# Altium integrated library Microchip PIC16 Part 2.IntLib: 1569 symbols (part 52 of 56)
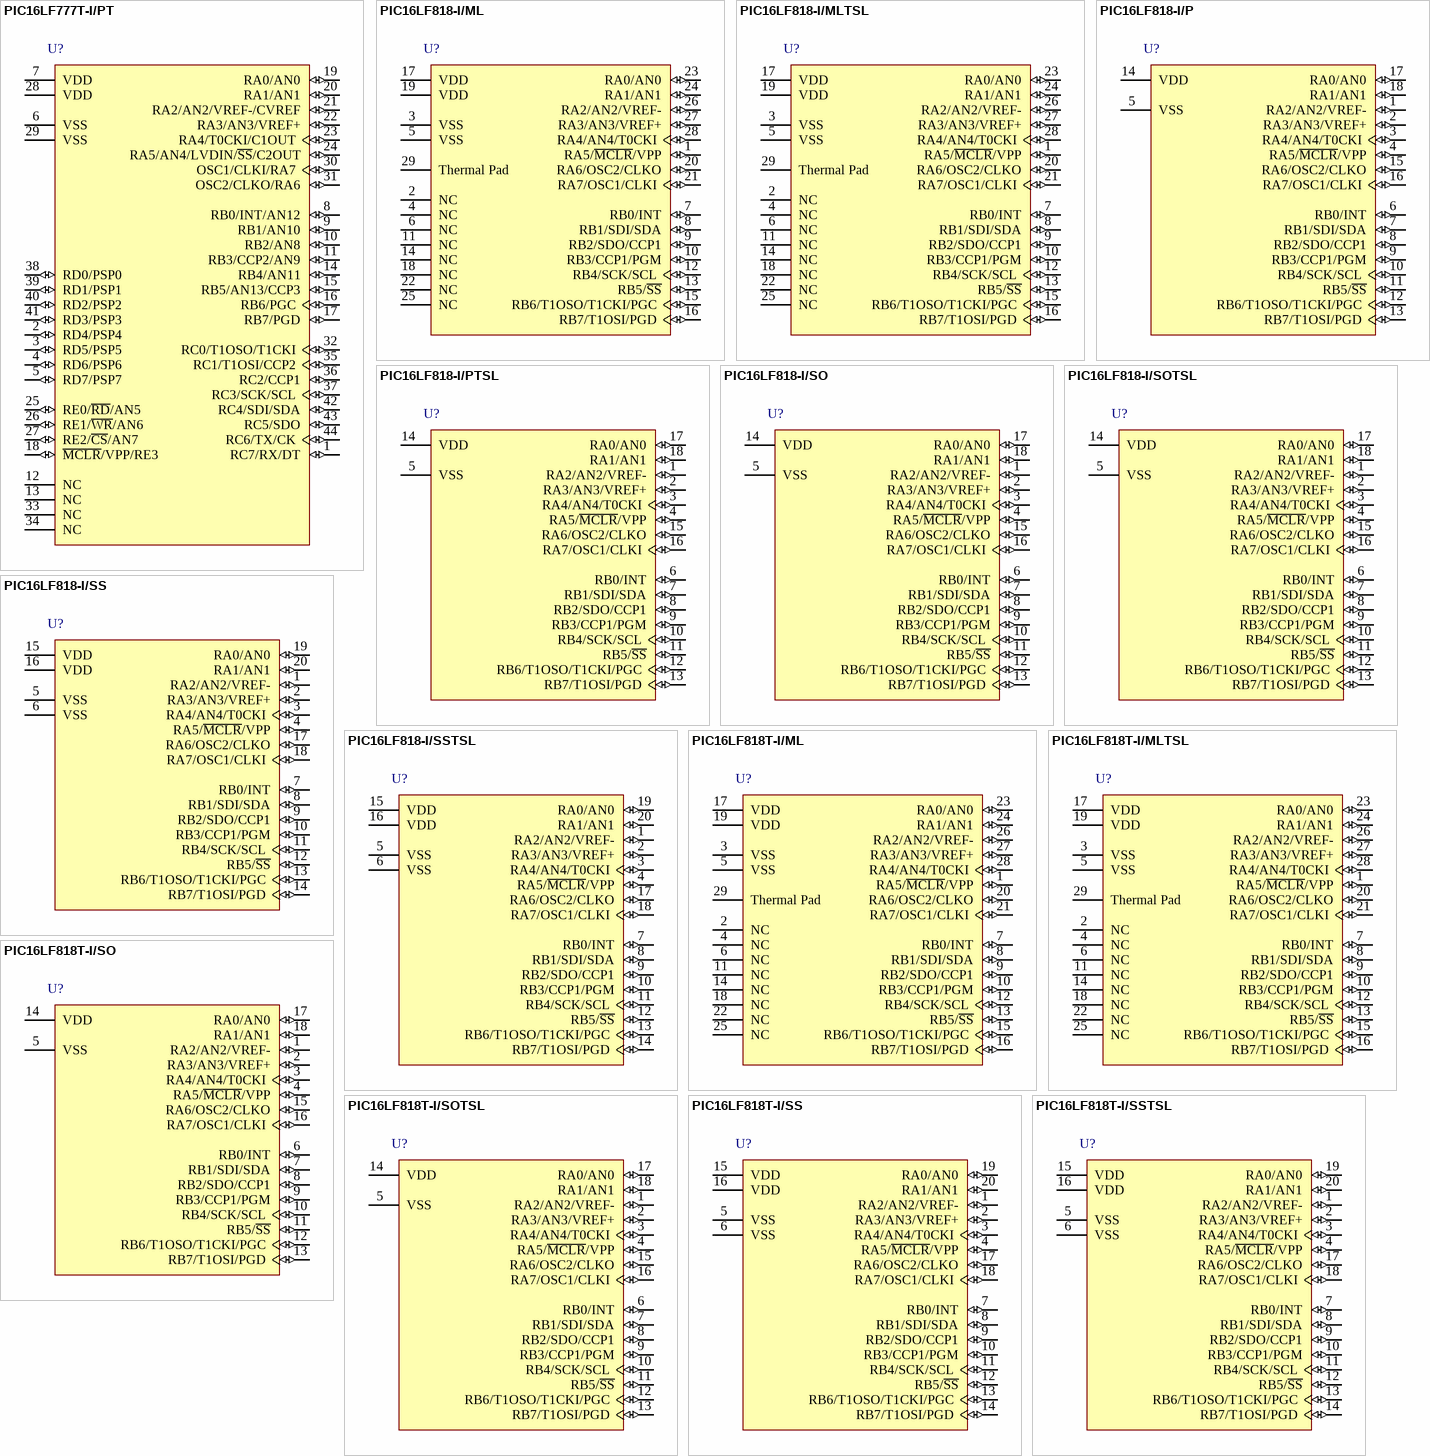
[diagram p176: symbols PIC16LF777T-I/PT to PIC16LF818T-I/SSTSL]

## PIC16LF818-I/PTSL
designator U?
Enhanced Flash Microcontroller with nanoWatt Technology, 1K (x14-Bit words) Program Memory, 256 Bytes Data Memory, 16 I/O pins, 18-Pin PDIP, Extended VDD Range, Industrial Temperature; Manufacturer: Microchip; PartNumber: PIC16LF818-I/PTSL; DatasheetVersion: revE, Sep-2004; PackageVersion: revBB, Aug-2009; PackageReference: PDIP300-P18; PackageDescription: 18-Lead Plastic Dual In-Line (P) - 300 mil Body [PDIP]; Supplier 1: Digi-Key; Supplier Part Number 1: PIC16LF818-I/PTSL-ND; Supplier 2: Mouser; Supplier Part Number 2: 579-PIC16LF818-IPTSL; Code_JEDEC: MS-001; ComponentLink1Description: Manufacturer URL; ComponentLink1URL: http://www.microchip.com/; ComponentLink2Description: Datasheet; ComponentLink2URL: http://ww1.microchip.com/downloads/en/DeviceDoc/39598e.pdf; ComponentLink3Description: Package Specification; ComponentLink3URL: http://www.microchip.com/stellent/groups/techpub_sg/documents/packagingspec/en012702.pdf
footprint PDIP300-P18 (DIP, 18-Leads, Row Spacing 7.62mm, Pitch 2.54mm, Body 22.9x6.6mm)
pins: 1 RA2/AN2/VREF- (io), 2 RA3/AN3/VREF+ (io), 3 RA4/AN4/T0CKI (io), 4 RA5/~{MCLR}/VPP (io), 5 VSS (power), 6 RB0/INT (io), 7 RB1/SDI/SDA (io), 8 RB2/SDO/CCP1 (io), 9 RB3/CCP1/PGM (io), 10 RB4/SCK/SCL (io), 11 RB5/~{SS} (io), 12 RB6/T1OSO/T1CKI/PGC (io), 13 RB7/T1OSI/PGD (io), 14 VDD (power), 15 RA6/OSC2/CLKO (io), 16 RA7/OSC1/CLKI (io), 17 RA0/AN0 (io), 18 RA1/AN1 (io)

## PIC16LF818-I/SO
designator U?
Enhanced FLASH Microcontroller with nanoWatt Technology, 1K (x14-Bit words) FLASH, 128 Bytes RAM, 18-Pin SOIC, Extended VDD Range, Industrial Temperature; Manufacturer: Microchip; PartNumber: PIC16LF818-I/SO; DatasheetVersion: revE, Sep-2004; PackageVersion: revBB, Aug-2009; PackageReference: SOIC-SO18; PackageDescription: 18-Lead Plastic Small Outline (SO) - Wide 7.50mm Body [SOIC]; Supplier 1: Digi-Key; Supplier Part Number 1: PIC16LF818-I/SO-ND; Supplier 2: Farnell; Supplier Part Number 2: 1292273; Supplier 3: Newark; Supplier Part Number 3: 92C4878; Supplier 4: Mouser; Supplier Part Number 4: 579-PIC16LF818-I/SO; Code_JEDEC: MS-013; ComponentLink1Description: Manufacturer URL; ComponentLink1URL: http://www.microchip.com/; ComponentLink2Description: Datasheet; ComponentLink2URL: http://ww1.microchip.com/downloads/en/DeviceDoc/39598e.pdf; ComponentLink3Description: Package Specification; ComponentLink3URL: http://www.microchip.com/stellent/groups/techpub_sg/documents/packagingspec/en012702.pdf
footprint SOIC-SO18_N (SOIC, 18-Leads, Body 11.5x7.5mm, Pitch 1.27mm, IPC Medium Density)
footprint SOIC-SO18_L (SOIC, 18-Leads, Body 11.5x7.5mm, Pitch 1.27mm, IPC High Density)
footprint SOIC-SO18_M (SOIC, 18-Leads, Body 11.5x7.5mm, Pitch 1.27mm, IPC Low Density)
pins: 1 RA2/AN2/VREF- (io), 2 RA3/AN3/VREF+ (io), 3 RA4/AN4/T0CKI (io), 4 RA5/~{MCLR}/VPP (io), 5 VSS (power), 6 RB0/INT (io), 7 RB1/SDI/SDA (io), 8 RB2/SDO/CCP1 (io), 9 RB3/CCP1/PGM (io), 10 RB4/SCK/SCL (io), 11 RB5/~{SS} (io), 12 RB6/T1OSO/T1CKI/PGC (io), 13 RB7/T1OSI/PGD (io), 14 VDD (power), 15 RA6/OSC2/CLKO (io), 16 RA7/OSC1/CLKI (io), 17 RA0/AN0 (io), 18 RA1/AN1 (io)

## PIC16LF818-I/SOTSL
designator U?
Enhanced Flash Microcontroller with nanoWatt Technology, 1K (x14-Bit words) Program Memory, 256 Bytes Data Memory, 16 I/O pins, 18-Pin SOIC, Extended VDD Range, Industrial Temperature; Manufacturer: Microchip; PartNumber: PIC16LF818-I/SOTSL; DatasheetVersion: revE, Sep-2004; PackageVersion: revBB, Aug-2009; PackageReference: SOIC-SO18; PackageDescription: 18-Lead Plastic Small Outline (SO) - Wide 7.50mm Body [SOIC]; Supplier 1: Digi-Key; Supplier Part Number 1: PIC16LF818-ISOTSL-ND; Supplier 2: Mouser; Supplier Part Number 2: 579-PIC16LF818ISOTSL; Code_JEDEC: MS-013; ComponentLink1Description: Manufacturer URL; ComponentLink1URL: http://www.microchip.com/; ComponentLink2Description: Datasheet; ComponentLink2URL: http://ww1.microchip.com/downloads/en/DeviceDoc/39598e.pdf; ComponentLink3Description: Package Specification; ComponentLink3URL: http://www.microchip.com/stellent/groups/techpub_sg/documents/packagingspec/en012702.pdf
footprint SOIC-SO18_N (SOIC, 18-Leads, Body 11.5x7.5mm, Pitch 1.27mm, IPC Medium Density)
footprint SOIC-SO18_L (SOIC, 18-Leads, Body 11.5x7.5mm, Pitch 1.27mm, IPC High Density)
footprint SOIC-SO18_M (SOIC, 18-Leads, Body 11.5x7.5mm, Pitch 1.27mm, IPC Low Density)
pins: 1 RA2/AN2/VREF- (io), 2 RA3/AN3/VREF+ (io), 3 RA4/AN4/T0CKI (io), 4 RA5/~{MCLR}/VPP (io), 5 VSS (power), 6 RB0/INT (io), 7 RB1/SDI/SDA (io), 8 RB2/SDO/CCP1 (io), 9 RB3/CCP1/PGM (io), 10 RB4/SCK/SCL (io), 11 RB5/~{SS} (io), 12 RB6/T1OSO/T1CKI/PGC (io), 13 RB7/T1OSI/PGD (io), 14 VDD (power), 15 RA6/OSC2/CLKO (io), 16 RA7/OSC1/CLKI (io), 17 RA0/AN0 (io), 18 RA1/AN1 (io)

## PIC16LF818-I/SS
designator U?
Enhanced FLASH Microcontroller with nanoWatt Technology, 1K (x14-Bit words) FLASH, 128 Bytes RAM, 20-Pin SSOP, Extended VDD Range, Industrial Temperature; Manufacturer: Microchip; PartNumber: PIC16LF818-I/SS; DatasheetVersion: revE, Sep-2004; PackageVersion: revBB, Aug-2009; PackageReference: SSOP-SS20; PackageDescription: 20-Lead Plastic Shrink Small Outline (SS) - 5.3mm Body [SSOP]; Supplier 1: Digi-Key; Supplier Part Number 1: PIC16LF818-I/SS-ND; Supplier 2: Newark; Supplier Part Number 2: 92C4879; Supplier 3: Mouser; Supplier Part Number 3: 579-PIC16LF818-I/SS; Code_JEDEC: MO-150; ComponentLink1Description: Manufacturer URL; ComponentLink1URL: http://www.microchip.com/; ComponentLink2Description: Datasheet; ComponentLink2URL: http://ww1.microchip.com/downloads/en/DeviceDoc/39598e.pdf; ComponentLink3Description: Package Specification; ComponentLink3URL: http://www.microchip.com/stellent/groups/techpub_sg/documents/packagingspec/en012702.pdf
footprint SSOP-SS20_N (SOP, 20-Leads, Body 7.2x5.2mm, Pitch 0.65mm, IPC Medium Density)
footprint SSOP-SS20_L (SOP, 20-Leads, Body 7.2x5.2mm, Pitch 0.65mm, IPC High Density)
footprint SSOP-SS20_M (SOP, 20-Leads, Body 7.2x5.2mm, Pitch 0.65mm, IPC Low Density)
pins: 1 RA2/AN2/VREF- (io), 2 RA3/AN3/VREF+ (io), 3 RA4/AN4/T0CKI (io), 4 RA5/~{MCLR}/VPP (io), 5 VSS (power), 6 VSS (power), 7 RB0/INT (io), 8 RB1/SDI/SDA (io), 9 RB2/SDO/CCP1 (io), 10 RB3/CCP1/PGM (io), 11 RB4/SCK/SCL (io), 12 RB5/~{SS} (io), 13 RB6/T1OSO/T1CKI/PGC (io), 14 RB7/T1OSI/PGD (io), 15 VDD (power), 16 VDD (power), 17 RA6/OSC2/CLKO (io), 18 RA7/OSC1/CLKI (io), 19 RA0/AN0 (io), 20 RA1/AN1 (io)

## PIC16LF818-I/SSTSL
designator U?
Enhanced Flash Microcontroller with nanoWatt Technology, 1K (x14-Bit words) Program Memory, 256 Bytes Data Memory, 16 I/O pins, 20-Pin SSOP, Extended VDD Range, Industrial Temperature; Manufacturer: Microchip; PartNumber: PIC16LF818-I/SSTSL; DatasheetVersion: revE, Sep-2004; PackageVersion: revBB, Aug-2009; PackageReference: SSOP-SS20; PackageDescription: 20-Lead Plastic Shrink Small Outline (SS) - 5.3mm Body [SSOP]; Supplier 1: Digi-Key; Supplier Part Number 1: PIC16LF818-ISSTSL-ND; Supplier 2: Mouser; Supplier Part Number 2: 579-PIC16LF818ISSTSL; Code_JEDEC: MO-150; ComponentLink1Description: Manufacturer URL; ComponentLink1URL: http://www.microchip.com/; ComponentLink2Description: Datasheet; ComponentLink2URL: http://ww1.microchip.com/downloads/en/DeviceDoc/39598e.pdf; ComponentLink3Description: Package Specification; ComponentLink3URL: http://www.microchip.com/stellent/groups/techpub_sg/documents/packagingspec/en012702.pdf
footprint SSOP-SS20_N (SOP, 20-Leads, Body 7.2x5.2mm, Pitch 0.65mm, IPC Medium Density)
footprint SSOP-SS20_L (SOP, 20-Leads, Body 7.2x5.2mm, Pitch 0.65mm, IPC High Density)
footprint SSOP-SS20_M (SOP, 20-Leads, Body 7.2x5.2mm, Pitch 0.65mm, IPC Low Density)
pins: 1 RA2/AN2/VREF- (io), 2 RA3/AN3/VREF+ (io), 3 RA4/AN4/T0CKI (io), 4 RA5/~{MCLR}/VPP (io), 5 VSS (power), 6 VSS (power), 7 RB0/INT (io), 8 RB1/SDI/SDA (io), 9 RB2/SDO/CCP1 (io), 10 RB3/CCP1/PGM (io), 11 RB4/SCK/SCL (io), 12 RB5/~{SS} (io), 13 RB6/T1OSO/T1CKI/PGC (io), 14 RB7/T1OSI/PGD (io), 15 VDD (power), 16 VDD (power), 17 RA6/OSC2/CLKO (io), 18 RA7/OSC1/CLKI (io), 19 RA0/AN0 (io), 20 RA1/AN1 (io)

## PIC16LF818T-I/ML
designator U?
Enhanced Flash Microcontroller with nanoWatt Technology, 1K (x14-Bit words) Program Memory, 256 Bytes Data Memory, 16 I/O pins, 28-Pin QFN, Extended VDD Range, Industrial Temperature, Tape and Reel; Manufacturer: Microchip; PartNumber: PIC16LF818T-I/ML; DatasheetVersion: revE, Sep-2004; PackageVersion: revBB, Aug-2009; PackageReference: QFN-ML28; PackageDescription: 28-Lead Plastic Quad Flat, No Lead Package (ML) - 6x6 mm Body [QFN] with 0.55 mm Contact Length; Supplier 1: Digi-Key; Supplier Part Number 1: PIC16LF818T-I/ML-ND; Supplier 2: Mouser; Supplier Part Number 2: 579-PIC16LF818T-I/ML; Code_JEDEC: MO-220; ComponentLink1Description: Manufacturer URL; ComponentLink1URL: http://www.microchip.com/; ComponentLink2Description: Datasheet; ComponentLink2URL: http://ww1.microchip.com/downloads/en/DeviceDoc/39598e.pdf; ComponentLink3Description: Package Specification; ComponentLink3URL: http://www.microchip.com/stellent/groups/techpub_sg/documents/packagingspec/en012702.pdf
footprint QFN-ML28_N (QFN, 28-Leads, Body 6x6mm, Pitch 0.65mm, Thermal Pad 4.2x4.2mm, IPC Medium Density)
footprint QFN-ML28_L (QFN, 28-Leads, Body 6x6mm, Pitch 0.65mm, Thermal Pad 4.2x4.2mm, IPC High Density)
footprint QFN-ML28_M (QFN, 28-Leads, Body 6x6mm, Pitch 0.65mm, Thermal Pad 4.2x4.2mm, IPC Low Density)
pins: 1 RA5/~{MCLR}/VPP (io), 2 NC, 3 VSS (power), 4 NC, 5 VSS (power), 6 NC, 7 RB0/INT (io), 8 RB1/SDI/SDA (io), 9 RB2/SDO/CCP1 (io), 10 RB3/CCP1/PGM (io), 11 NC, 12 RB4/SCK/SCL (io), 13 RB5/~{SS} (io), 14 NC, 15 RB6/T1OSO/T1CKI/PGC (io), 16 RB7/T1OSI/PGD (io), 17 VDD (power), 18 NC, 19 VDD (power), 20 RA6/OSC2/CLKO (io), 21 RA7/OSC1/CLKI (io), 22 NC, 23 RA0/AN0 (io), 24 RA1/AN1 (io), 25 NC, 26 RA2/AN2/VREF- (io), 27 RA3/AN3/VREF+ (io), 28 RA4/AN4/T0CKI (io), 29 Thermal Pad

## PIC16LF818T-I/MLTSL
designator U?
Enhanced Flash Microcontroller with nanoWatt Technology, 1K (x14-Bit words) Program Memory, 256 Bytes Data Memory, 16 I/O pins, 28-Pin QFN, Extended VDD Range, Industrial Temperature, Tape and Reel; Manufacturer: Microchip; PartNumber: PIC16LF818T-I/MLTSL; DatasheetVersion: revE, Sep-2004; PackageVersion: revBB, Aug-2009; PackageReference: QFN-ML28; PackageDescription: 28-Lead Plastic Quad Flat, No Lead Package (ML) - 6x6 mm Body [QFN] with 0.55 mm Contact Length; Supplier 1: Digi-Key; Supplier Part Number 1: PIC16LF818TIMLTSL-ND; Supplier 2: Mouser; Supplier Part Number 2: 579-PIC16LF818TIMLTS; Code_JEDEC: MO-220; ComponentLink1Description: Manufacturer URL; ComponentLink1URL: http://www.microchip.com/; ComponentLink2Description: Datasheet; ComponentLink2URL: http://ww1.microchip.com/downloads/en/DeviceDoc/39598e.pdf; ComponentLink3Description: Package Specification; ComponentLink3URL: http://www.microchip.com/stellent/groups/techpub_sg/documents/packagingspec/en012702.pdf
footprint QFN-ML28_N (QFN, 28-Leads, Body 6x6mm, Pitch 0.65mm, Thermal Pad 4.2x4.2mm, IPC Medium Density)
footprint QFN-ML28_L (QFN, 28-Leads, Body 6x6mm, Pitch 0.65mm, Thermal Pad 4.2x4.2mm, IPC High Density)
footprint QFN-ML28_M (QFN, 28-Leads, Body 6x6mm, Pitch 0.65mm, Thermal Pad 4.2x4.2mm, IPC Low Density)
pins: 1 RA5/~{MCLR}/VPP (io), 2 NC, 3 VSS (power), 4 NC, 5 VSS (power), 6 NC, 7 RB0/INT (io), 8 RB1/SDI/SDA (io), 9 RB2/SDO/CCP1 (io), 10 RB3/CCP1/PGM (io), 11 NC, 12 RB4/SCK/SCL (io), 13 RB5/~{SS} (io), 14 NC, 15 RB6/T1OSO/T1CKI/PGC (io), 16 RB7/T1OSI/PGD (io), 17 VDD (power), 18 NC, 19 VDD (power), 20 RA6/OSC2/CLKO (io), 21 RA7/OSC1/CLKI (io), 22 NC, 23 RA0/AN0 (io), 24 RA1/AN1 (io), 25 NC, 26 RA2/AN2/VREF- (io), 27 RA3/AN3/VREF+ (io), 28 RA4/AN4/T0CKI (io), 29 Thermal Pad

## PIC16LF818T-I/SO
designator U?
Enhanced FLASH Microcontroller with nanoWatt Technology, 1K (x14-Bit words) FLASH, 128 Bytes RAM, 18-Pin SOIC, Extended VDD Range, Industrial Temperature, Tape and Reel; Manufacturer: Microchip; PartNumber: PIC16LF818T-I/SO; DatasheetVersion: revE, Sep-2004; PackageVersion: revBB, Aug-2009; PackageReference: SOIC-SO18; PackageDescription: 18-Lead Plastic Small Outline (SO) - Wide 7.50mm Body [SOIC]; Supplier 1: Digi-Key; Supplier Part Number 1: PIC16LF818T-I/SO-ND; Supplier 2: Newark; Supplier Part Number 2: 92C4881; Supplier 3: Mouser; Supplier Part Number 3: 579-PIC16LF818T-I/SO; Code_JEDEC: MS-013; ComponentLink1Description: Manufacturer URL; ComponentLink1URL: http://www.microchip.com/; ComponentLink2Description: Datasheet; ComponentLink2URL: http://ww1.microchip.com/downloads/en/DeviceDoc/39598e.pdf; ComponentLink3Description: Package Specification; ComponentLink3URL: http://www.microchip.com/stellent/groups/techpub_sg/documents/packagingspec/en012702.pdf
footprint SOIC-SO18_N (SOIC, 18-Leads, Body 11.5x7.5mm, Pitch 1.27mm, IPC Medium Density)
footprint SOIC-SO18_L (SOIC, 18-Leads, Body 11.5x7.5mm, Pitch 1.27mm, IPC High Density)
footprint SOIC-SO18_M (SOIC, 18-Leads, Body 11.5x7.5mm, Pitch 1.27mm, IPC Low Density)
pins: 1 RA2/AN2/VREF- (io), 2 RA3/AN3/VREF+ (io), 3 RA4/AN4/T0CKI (io), 4 RA5/~{MCLR}/VPP (io), 5 VSS (power), 6 RB0/INT (io), 7 RB1/SDI/SDA (io), 8 RB2/SDO/CCP1 (io), 9 RB3/CCP1/PGM (io), 10 RB4/SCK/SCL (io), 11 RB5/~{SS} (io), 12 RB6/T1OSO/T1CKI/PGC (io), 13 RB7/T1OSI/PGD (io), 14 VDD (power), 15 RA6/OSC2/CLKO (io), 16 RA7/OSC1/CLKI (io), 17 RA0/AN0 (io), 18 RA1/AN1 (io)

## PIC16LF818T-I/SOTSL
designator U?
Enhanced Flash Microcontroller with nanoWatt Technology, 1K (x14-Bit words) Program Memory, 256 Bytes Data Memory, 16 I/O pins, 18-Pin SOIC, Extended VDD Range, Industrial Temperature, Tape and Reel; Manufacturer: Microchip; PartNumber: PIC16LF818T-I/SOTSL; DatasheetVersion: revE, Sep-2004; PackageVersion: revBB, Aug-2009; PackageReference: SOIC-SO18; PackageDescription: 18-Lead Plastic Small Outline (SO) - Wide 7.50mm Body [SOIC]; Supplier 1: Digi-Key; Supplier Part Number 1: PIC16LF818TISOTSL-ND; Supplier 2: Mouser; Supplier Part Number 2: 579-PIC16LF818TISOTS; Code_JEDEC: MS-013; ComponentLink1Description: Manufacturer URL; ComponentLink1URL: http://www.microchip.com/; ComponentLink2Description: Datasheet; ComponentLink2URL: http://ww1.microchip.com/downloads/en/DeviceDoc/39598e.pdf; ComponentLink3Description: Package Specification; ComponentLink3URL: http://www.microchip.com/stellent/groups/techpub_sg/documents/packagingspec/en012702.pdf
footprint SOIC-SO18_N (SOIC, 18-Leads, Body 11.5x7.5mm, Pitch 1.27mm, IPC Medium Density)
footprint SOIC-SO18_L (SOIC, 18-Leads, Body 11.5x7.5mm, Pitch 1.27mm, IPC High Density)
footprint SOIC-SO18_M (SOIC, 18-Leads, Body 11.5x7.5mm, Pitch 1.27mm, IPC Low Density)
pins: 1 RA2/AN2/VREF- (io), 2 RA3/AN3/VREF+ (io), 3 RA4/AN4/T0CKI (io), 4 RA5/~{MCLR}/VPP (io), 5 VSS (power), 6 RB0/INT (io), 7 RB1/SDI/SDA (io), 8 RB2/SDO/CCP1 (io), 9 RB3/CCP1/PGM (io), 10 RB4/SCK/SCL (io), 11 RB5/~{SS} (io), 12 RB6/T1OSO/T1CKI/PGC (io), 13 RB7/T1OSI/PGD (io), 14 VDD (power), 15 RA6/OSC2/CLKO (io), 16 RA7/OSC1/CLKI (io), 17 RA0/AN0 (io), 18 RA1/AN1 (io)

## PIC16LF818T-I/SS
designator U?
Enhanced FLASH Microcontroller with nanoWatt Technology, 1K (x14-Bit words) FLASH, 128 Bytes RAM, 20-Pin SSOP, Extended VDD Range, Industrial Temperature, Tape and Reel; Manufacturer: Microchip; PartNumber: PIC16LF818T-I/SS; DatasheetVersion: revE, Sep-2004; PackageVersion: revBB, Aug-2009; PackageReference: SSOP-SS20; PackageDescription: 20-Lead Plastic Shrink Small Outline (SS) - 5.3mm Body [SSOP]; Supplier 1: Digi-Key; Supplier Part Number 1: PIC16LF818T-I/SS-ND; Supplier 2: Mouser; Supplier Part Number 2: 579-PIC16LF818T-I/SS; Code_JEDEC: MO-150; ComponentLink1Description: Manufacturer URL; ComponentLink1URL: http://www.microchip.com/; ComponentLink2Description: Datasheet; ComponentLink2URL: http://ww1.microchip.com/downloads/en/DeviceDoc/39598e.pdf; ComponentLink3Description: Package Specification; ComponentLink3URL: http://www.microchip.com/stellent/groups/techpub_sg/documents/packagingspec/en012702.pdf
footprint SSOP-SS20_N (SOP, 20-Leads, Body 7.2x5.2mm, Pitch 0.65mm, IPC Medium Density)
footprint SSOP-SS20_L (SOP, 20-Leads, Body 7.2x5.2mm, Pitch 0.65mm, IPC High Density)
footprint SSOP-SS20_M (SOP, 20-Leads, Body 7.2x5.2mm, Pitch 0.65mm, IPC Low Density)
pins: 1 RA2/AN2/VREF- (io), 2 RA3/AN3/VREF+ (io), 3 RA4/AN4/T0CKI (io), 4 RA5/~{MCLR}/VPP (io), 5 VSS (power), 6 VSS (power), 7 RB0/INT (io), 8 RB1/SDI/SDA (io), 9 RB2/SDO/CCP1 (io), 10 RB3/CCP1/PGM (io), 11 RB4/SCK/SCL (io), 12 RB5/~{SS} (io), 13 RB6/T1OSO/T1CKI/PGC (io), 14 RB7/T1OSI/PGD (io), 15 VDD (power), 16 VDD (power), 17 RA6/OSC2/CLKO (io), 18 RA7/OSC1/CLKI (io), 19 RA0/AN0 (io), 20 RA1/AN1 (io)

## PIC16LF818T-I/SSTSL
designator U?
Enhanced Flash Microcontroller with nanoWatt Technology, 1K (x14-Bit words) Program Memory, 256 Bytes Data Memory, 16 I/O pins, 20-Pin SSOP, Extended VDD Range, Industrial Temperature, Tape and Reel; Manufacturer: Microchip; PartNumber: PIC16LF818T-I/SSTSL; DatasheetVersion: revE, Sep-2004; PackageVersion: revBB, Aug-2009; PackageReference: SSOP-SS20; PackageDescription: 20-Lead Plastic Shrink Small Outline (SS) - 5.3mm Body [SSOP]; Supplier 1: Digi-Key; Supplier Part Number 1: PIC16LF818TISSTSL-ND; Supplier 2: Mouser; Supplier Part Number 2: 579-PIC16LF818TISSTS; Code_JEDEC: MO-150; ComponentLink1Description: Manufacturer URL; ComponentLink1URL: http://www.microchip.com/; ComponentLink2Description: Datasheet; ComponentLink2URL: http://ww1.microchip.com/downloads/en/DeviceDoc/39598e.pdf; ComponentLink3Description: Package Specification; ComponentLink3URL: http://www.microchip.com/stellent/groups/techpub_sg/documents/packagingspec/en012702.pdf
footprint SSOP-SS20_N (SOP, 20-Leads, Body 7.2x5.2mm, Pitch 0.65mm, IPC Medium Density)
footprint SSOP-SS20_L (SOP, 20-Leads, Body 7.2x5.2mm, Pitch 0.65mm, IPC High Density)
footprint SSOP-SS20_M (SOP, 20-Leads, Body 7.2x5.2mm, Pitch 0.65mm, IPC Low Density)
pins: 1 RA2/AN2/VREF- (io), 2 RA3/AN3/VREF+ (io), 3 RA4/AN4/T0CKI (io), 4 RA5/~{MCLR}/VPP (io), 5 VSS (power), 6 VSS (power), 7 RB0/INT (io), 8 RB1/SDI/SDA (io), 9 RB2/SDO/CCP1 (io), 10 RB3/CCP1/PGM (io), 11 RB4/SCK/SCL (io), 12 RB5/~{SS} (io), 13 RB6/T1OSO/T1CKI/PGC (io), 14 RB7/T1OSI/PGD (io), 15 VDD (power), 16 VDD (power), 17 RA6/OSC2/CLKO (io), 18 RA7/OSC1/CLKI (io), 19 RA0/AN0 (io), 20 RA1/AN1 (io)

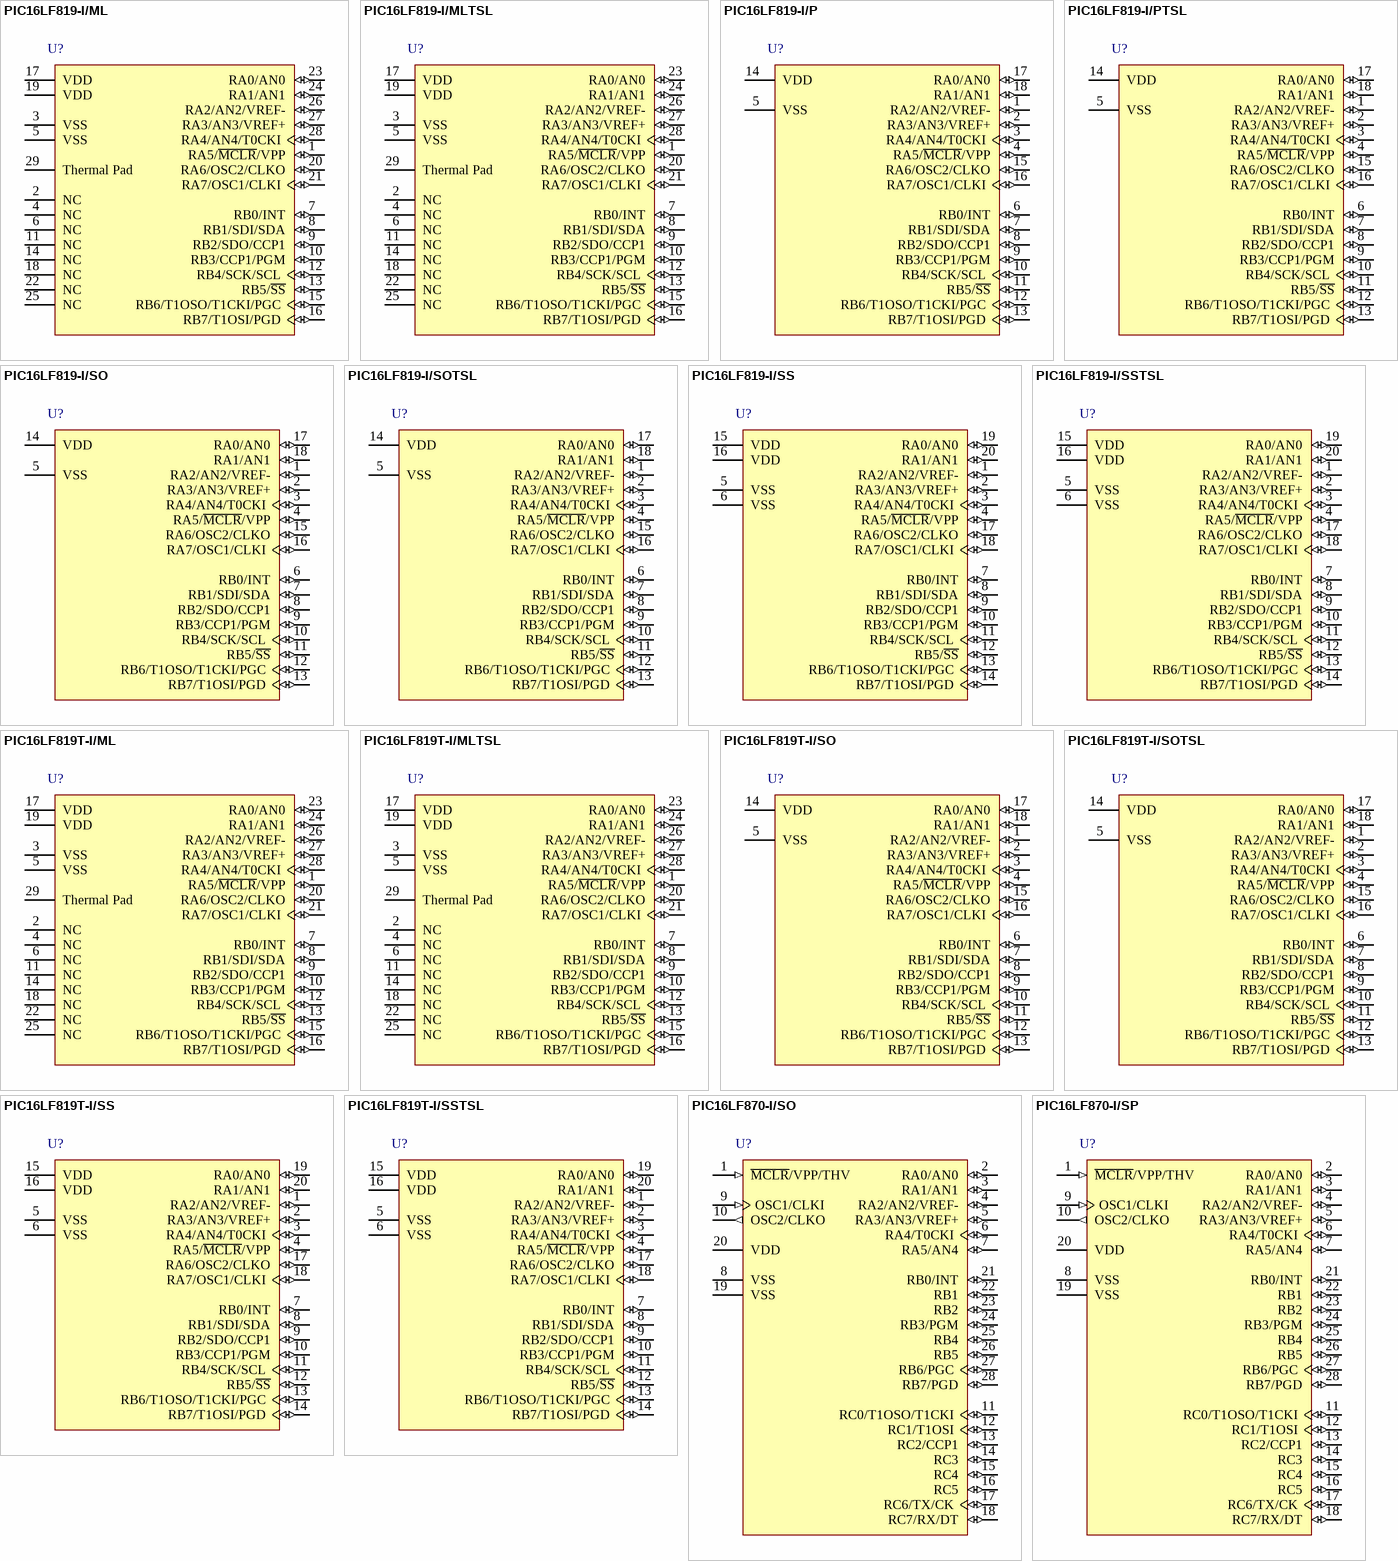
[diagram p112: symbols PIC16LF819-I/ML to PIC16LF870-I/SP]

## PIC16LF819-I/ML
designator U?
Enhanced FLASH Microcontroller with nanoWatt Technology, 2K (x14-Bit words) FLASH, 256 Bytes RAM, 28-Pin QFN, Extended VDD Range, Industrial Temperature; Manufacturer: Microchip; PartNumber: PIC16LF819-I/ML; DatasheetVersion: revE, Sep-2004; PackageVersion: revBB, Aug-2009; PackageReference: QFN-ML28; PackageDescription: 28-Lead Plastic Quad Flat, No Lead Package (ML) - 6x6 mm Body [QFN] with 0.55 mm Contact Length; Supplier 1: Digi-Key; Supplier Part Number 1: PIC16LF819-I/ML-ND; Supplier 2: Newark; Supplier Part Number 2: 92C4883; Supplier 3: Mouser; Supplier Part Number 3: 579-PIC16LF819-I/ML; Code_JEDEC: MO-220; ComponentLink1Description: Manufacturer URL; ComponentLink1URL: http://www.microchip.com/; ComponentLink2Description: Datasheet; ComponentLink2URL: http://ww1.microchip.com/downloads/en/DeviceDoc/39598e.pdf; ComponentLink3Description: Package Specification; ComponentLink3URL: http://www.microchip.com/stellent/groups/techpub_sg/documents/packagingspec/en012702.pdf
footprint QFN-ML28_N (QFN, 28-Leads, Body 6x6mm, Pitch 0.65mm, Thermal Pad 4.2x4.2mm, IPC Medium Density)
footprint QFN-ML28_L (QFN, 28-Leads, Body 6x6mm, Pitch 0.65mm, Thermal Pad 4.2x4.2mm, IPC High Density)
footprint QFN-ML28_M (QFN, 28-Leads, Body 6x6mm, Pitch 0.65mm, Thermal Pad 4.2x4.2mm, IPC Low Density)
pins: 1 RA5/~{MCLR}/VPP (io), 2 NC, 3 VSS (power), 4 NC, 5 VSS (power), 6 NC, 7 RB0/INT (io), 8 RB1/SDI/SDA (io), 9 RB2/SDO/CCP1 (io), 10 RB3/CCP1/PGM (io), 11 NC, 12 RB4/SCK/SCL (io), 13 RB5/~{SS} (io), 14 NC, 15 RB6/T1OSO/T1CKI/PGC (io), 16 RB7/T1OSI/PGD (io), 17 VDD (power), 18 NC, 19 VDD (power), 20 RA6/OSC2/CLKO (io), 21 RA7/OSC1/CLKI (io), 22 NC, 23 RA0/AN0 (io), 24 RA1/AN1 (io), 25 NC, 26 RA2/AN2/VREF- (io), 27 RA3/AN3/VREF+ (io), 28 RA4/AN4/T0CKI (io), 29 Thermal Pad

## PIC16LF819-I/MLTSL
designator U?
Enhanced Flash Microcontroller with nanoWatt Technology, 2K (x14-Bit words) Program Memory, 512 Bytes Data Memory, 16 I/O pins, 28-Pin QFN, Extended VDD Range, Industrial Temperature; Manufacturer: Microchip; PartNumber: PIC16LF819-I/MLTSL; DatasheetVersion: revE, Sep-2004; PackageVersion: revBB, Aug-2009; PackageReference: QFN-ML28; PackageDescription: 28-Lead Plastic Quad Flat, No Lead Package (ML) - 6x6 mm Body [QFN] with 0.55 mm Contact Length; Supplier 1: Digi-Key; Supplier Part Number 1: PIC16LF819-IMLTSL-ND; Supplier 2: Mouser; Supplier Part Number 2: 579-PIC16LF819IMLTSL; Code_JEDEC: MO-220; ComponentLink1Description: Manufacturer URL; ComponentLink1URL: http://www.microchip.com/; ComponentLink2Description: Datasheet; ComponentLink2URL: http://ww1.microchip.com/downloads/en/DeviceDoc/39598e.pdf; ComponentLink3Description: Package Specification; ComponentLink3URL: http://www.microchip.com/stellent/groups/techpub_sg/documents/packagingspec/en012702.pdf
footprint QFN-ML28_N (QFN, 28-Leads, Body 6x6mm, Pitch 0.65mm, Thermal Pad 4.2x4.2mm, IPC Medium Density)
footprint QFN-ML28_L (QFN, 28-Leads, Body 6x6mm, Pitch 0.65mm, Thermal Pad 4.2x4.2mm, IPC High Density)
footprint QFN-ML28_M (QFN, 28-Leads, Body 6x6mm, Pitch 0.65mm, Thermal Pad 4.2x4.2mm, IPC Low Density)
pins: 1 RA5/~{MCLR}/VPP (io), 2 NC, 3 VSS (power), 4 NC, 5 VSS (power), 6 NC, 7 RB0/INT (io), 8 RB1/SDI/SDA (io), 9 RB2/SDO/CCP1 (io), 10 RB3/CCP1/PGM (io), 11 NC, 12 RB4/SCK/SCL (io), 13 RB5/~{SS} (io), 14 NC, 15 RB6/T1OSO/T1CKI/PGC (io), 16 RB7/T1OSI/PGD (io), 17 VDD (power), 18 NC, 19 VDD (power), 20 RA6/OSC2/CLKO (io), 21 RA7/OSC1/CLKI (io), 22 NC, 23 RA0/AN0 (io), 24 RA1/AN1 (io), 25 NC, 26 RA2/AN2/VREF- (io), 27 RA3/AN3/VREF+ (io), 28 RA4/AN4/T0CKI (io), 29 Thermal Pad

## PIC16LF819-I/P
designator U?
Enhanced FLASH Microcontroller with nanoWatt Technology, 2K (x14-Bit words) FLASH, 256 Bytes RAM, 18-Pin PDIP, Extended VDD Range, Industrial Temperature; Manufacturer: Microchip; PartNumber: PIC16LF819-I/P; DatasheetVersion: revE, Sep-2004; PackageVersion: revBB, Aug-2009; PackageReference: PDIP300-P18; PackageDescription: 18-Lead Plastic Dual In-Line (P) - 300 mil Body [PDIP]; Supplier 1: Digi-Key; Supplier Part Number 1: PIC16LF819-I/P-ND; Supplier 2: Newark; Supplier Part Number 2: 96K3901; Supplier 3: Mouser; Supplier Part Number 3: 579-PIC16LF819-I/P; Code_JEDEC: MS-001; ComponentLink1Description: Manufacturer URL; ComponentLink1URL: http://www.microchip.com/; ComponentLink2Description: Datasheet; ComponentLink2URL: http://ww1.microchip.com/downloads/en/DeviceDoc/39598e.pdf; ComponentLink3Description: Package Specification; ComponentLink3URL: http://www.microchip.com/stellent/groups/techpub_sg/documents/packagingspec/en012702.pdf
footprint PDIP300-P18 (DIP, 18-Leads, Row Spacing 7.62mm, Pitch 2.54mm, Body 22.9x6.6mm)
pins: 1 RA2/AN2/VREF- (io), 2 RA3/AN3/VREF+ (io), 3 RA4/AN4/T0CKI (io), 4 RA5/~{MCLR}/VPP (io), 5 VSS (power), 6 RB0/INT (io), 7 RB1/SDI/SDA (io), 8 RB2/SDO/CCP1 (io), 9 RB3/CCP1/PGM (io), 10 RB4/SCK/SCL (io), 11 RB5/~{SS} (io), 12 RB6/T1OSO/T1CKI/PGC (io), 13 RB7/T1OSI/PGD (io), 14 VDD (power), 15 RA6/OSC2/CLKO (io), 16 RA7/OSC1/CLKI (io), 17 RA0/AN0 (io), 18 RA1/AN1 (io)

## PIC16LF819-I/PTSL
designator U?
Enhanced Flash Microcontroller with nanoWatt Technology, 2K (x14-Bit words) Program Memory, 512 Bytes Data Memory, 16 I/O pins, 18-Pin PDIP, Extended VDD Range, Industrial Temperature; Manufacturer: Microchip; PartNumber: PIC16LF819-I/PTSL; DatasheetVersion: revE, Sep-2004; PackageVersion: revBB, Aug-2009; PackageReference: PDIP300-P18; PackageDescription: 18-Lead Plastic Dual In-Line (P) - 300 mil Body [PDIP]; Supplier 1: Digi-Key; Supplier Part Number 1: PIC16LF819-I/PTSL-ND; Supplier 2: Mouser; Supplier Part Number 2: 579-PIC16LF819-IPTSL; Code_JEDEC: MS-001; ComponentLink1Description: Manufacturer URL; ComponentLink1URL: http://www.microchip.com/; ComponentLink2Description: Datasheet; ComponentLink2URL: http://ww1.microchip.com/downloads/en/DeviceDoc/39598e.pdf; ComponentLink3Description: Package Specification; ComponentLink3URL: http://www.microchip.com/stellent/groups/techpub_sg/documents/packagingspec/en012702.pdf
footprint PDIP300-P18 (DIP, 18-Leads, Row Spacing 7.62mm, Pitch 2.54mm, Body 22.9x6.6mm)
pins: 1 RA2/AN2/VREF- (io), 2 RA3/AN3/VREF+ (io), 3 RA4/AN4/T0CKI (io), 4 RA5/~{MCLR}/VPP (io), 5 VSS (power), 6 RB0/INT (io), 7 RB1/SDI/SDA (io), 8 RB2/SDO/CCP1 (io), 9 RB3/CCP1/PGM (io), 10 RB4/SCK/SCL (io), 11 RB5/~{SS} (io), 12 RB6/T1OSO/T1CKI/PGC (io), 13 RB7/T1OSI/PGD (io), 14 VDD (power), 15 RA6/OSC2/CLKO (io), 16 RA7/OSC1/CLKI (io), 17 RA0/AN0 (io), 18 RA1/AN1 (io)

## PIC16LF819-I/SO
designator U?
Enhanced FLASH Microcontroller with nanoWatt Technology, 2K (x14-Bit words) FLASH, 256 Bytes RAM, 18-Pin SOIC, Extended VDD Range, Industrial Temperature; Manufacturer: Microchip; PartNumber: PIC16LF819-I/SO; DatasheetVersion: revE, Sep-2004; PackageVersion: revBB, Aug-2009; PackageReference: SOIC-SO18; PackageDescription: 18-Lead Plastic Small Outline (SO) - Wide 7.50mm Body [SOIC]; Supplier 1: Digi-Key; Supplier Part Number 1: PIC16LF819-I/SO-ND; Supplier 2: Farnell; Supplier Part Number 2: 1439749; Supplier 3: Newark; Supplier Part Number 3: 92C4885; Supplier 4: Mouser; Supplier Part Number 4: 579-PIC16LF819-I/SO; Code_JEDEC: MS-013; ComponentLink1Description: Manufacturer URL; ComponentLink1URL: http://www.microchip.com/; ComponentLink2Description: Datasheet; ComponentLink2URL: http://ww1.microchip.com/downloads/en/DeviceDoc/39598e.pdf; ComponentLink3Description: Package Specification; ComponentLink3URL: http://www.microchip.com/stellent/groups/techpub_sg/documents/packagingspec/en012702.pdf
footprint SOIC-SO18_N (SOIC, 18-Leads, Body 11.5x7.5mm, Pitch 1.27mm, IPC Medium Density)
footprint SOIC-SO18_L (SOIC, 18-Leads, Body 11.5x7.5mm, Pitch 1.27mm, IPC High Density)
footprint SOIC-SO18_M (SOIC, 18-Leads, Body 11.5x7.5mm, Pitch 1.27mm, IPC Low Density)
pins: 1 RA2/AN2/VREF- (io), 2 RA3/AN3/VREF+ (io), 3 RA4/AN4/T0CKI (io), 4 RA5/~{MCLR}/VPP (io), 5 VSS (power), 6 RB0/INT (io), 7 RB1/SDI/SDA (io), 8 RB2/SDO/CCP1 (io), 9 RB3/CCP1/PGM (io), 10 RB4/SCK/SCL (io), 11 RB5/~{SS} (io), 12 RB6/T1OSO/T1CKI/PGC (io), 13 RB7/T1OSI/PGD (io), 14 VDD (power), 15 RA6/OSC2/CLKO (io), 16 RA7/OSC1/CLKI (io), 17 RA0/AN0 (io), 18 RA1/AN1 (io)

## PIC16LF819-I/SOTSL
designator U?
Enhanced Flash Microcontroller with nanoWatt Technology, 2K (x14-Bit words) Program Memory, 512 Bytes Data Memory, 16 I/O pins, 18-Pin SOIC, Extended VDD Range, Industrial Temperature; Manufacturer: Microchip; PartNumber: PIC16LF819-I/SOTSL; DatasheetVersion: revE, Sep-2004; PackageVersion: revBB, Aug-2009; PackageReference: SOIC-SO18; PackageDescription: 18-Lead Plastic Small Outline (SO) - Wide 7.50mm Body [SOIC]; Supplier 1: Digi-Key; Supplier Part Number 1: PIC16LF819-ISOTSL-ND; Supplier 2: Mouser; Supplier Part Number 2: 579-PIC16LF819ISOTSL; Code_JEDEC: MS-013; ComponentLink1Description: Manufacturer URL; ComponentLink1URL: http://www.microchip.com/; ComponentLink2Description: Datasheet; ComponentLink2URL: http://ww1.microchip.com/downloads/en/DeviceDoc/39598e.pdf; ComponentLink3Description: Package Specification; ComponentLink3URL: http://www.microchip.com/stellent/groups/techpub_sg/documents/packagingspec/en012702.pdf
footprint SOIC-SO18_N (SOIC, 18-Leads, Body 11.5x7.5mm, Pitch 1.27mm, IPC Medium Density)
footprint SOIC-SO18_L (SOIC, 18-Leads, Body 11.5x7.5mm, Pitch 1.27mm, IPC High Density)
footprint SOIC-SO18_M (SOIC, 18-Leads, Body 11.5x7.5mm, Pitch 1.27mm, IPC Low Density)
pins: 1 RA2/AN2/VREF- (io), 2 RA3/AN3/VREF+ (io), 3 RA4/AN4/T0CKI (io), 4 RA5/~{MCLR}/VPP (io), 5 VSS (power), 6 RB0/INT (io), 7 RB1/SDI/SDA (io), 8 RB2/SDO/CCP1 (io), 9 RB3/CCP1/PGM (io), 10 RB4/SCK/SCL (io), 11 RB5/~{SS} (io), 12 RB6/T1OSO/T1CKI/PGC (io), 13 RB7/T1OSI/PGD (io), 14 VDD (power), 15 RA6/OSC2/CLKO (io), 16 RA7/OSC1/CLKI (io), 17 RA0/AN0 (io), 18 RA1/AN1 (io)

## PIC16LF819-I/SS
designator U?
Enhanced FLASH Microcontroller with nanoWatt Technology, 2K (x14-Bit words) FLASH, 256 Bytes RAM, 20-Pin SSOP, Extended VDD Range, Industrial Temperature; Manufacturer: Microchip; PartNumber: PIC16LF819-I/SS; DatasheetVersion: revE, Sep-2004; PackageVersion: revBB, Aug-2009; PackageReference: SSOP-SS20; PackageDescription: 20-Lead Plastic Shrink Small Outline (SS) - 5.3mm Body [SSOP]; Supplier 1: Digi-Key; Supplier Part Number 1: PIC16LF819-I/SS-ND; Supplier 2: Newark; Supplier Part Number 2: 92C4886; Supplier 3: Mouser; Supplier Part Number 3: 579-PIC16LF819-I/SS; Code_JEDEC: MO-150; ComponentLink1Description: Manufacturer URL; ComponentLink1URL: http://www.microchip.com/; ComponentLink2Description: Datasheet; ComponentLink2URL: http://ww1.microchip.com/downloads/en/DeviceDoc/39598e.pdf; ComponentLink3Description: Package Specification; ComponentLink3URL: http://www.microchip.com/stellent/groups/techpub_sg/documents/packagingspec/en012702.pdf
footprint SSOP-SS20_N (SOP, 20-Leads, Body 7.2x5.2mm, Pitch 0.65mm, IPC Medium Density)
footprint SSOP-SS20_L (SOP, 20-Leads, Body 7.2x5.2mm, Pitch 0.65mm, IPC High Density)
footprint SSOP-SS20_M (SOP, 20-Leads, Body 7.2x5.2mm, Pitch 0.65mm, IPC Low Density)
pins: 1 RA2/AN2/VREF- (io), 2 RA3/AN3/VREF+ (io), 3 RA4/AN4/T0CKI (io), 4 RA5/~{MCLR}/VPP (io), 5 VSS (power), 6 VSS (power), 7 RB0/INT (io), 8 RB1/SDI/SDA (io), 9 RB2/SDO/CCP1 (io), 10 RB3/CCP1/PGM (io), 11 RB4/SCK/SCL (io), 12 RB5/~{SS} (io), 13 RB6/T1OSO/T1CKI/PGC (io), 14 RB7/T1OSI/PGD (io), 15 VDD (power), 16 VDD (power), 17 RA6/OSC2/CLKO (io), 18 RA7/OSC1/CLKI (io), 19 RA0/AN0 (io), 20 RA1/AN1 (io)

## PIC16LF819-I/SSTSL
designator U?
Enhanced Flash Microcontroller with nanoWatt Technology, 2K (x14-Bit words) Program Memory, 512 Bytes Data Memory, 16 I/O pins, 20-Pin SSOP, Extended VDD Range, Industrial Temperature; Manufacturer: Microchip; PartNumber: PIC16LF819-I/SSTSL; DatasheetVersion: revE, Sep-2004; PackageVersion: revBB, Aug-2009; PackageReference: SSOP-SS20; PackageDescription: 20-Lead Plastic Shrink Small Outline (SS) - 5.3mm Body [SSOP]; Supplier 1: Digi-Key; Supplier Part Number 1: PIC16LF819-ISSTSL-ND; Supplier 2: Mouser; Supplier Part Number 2: 579-PIC16LF819ISSTSL; Code_JEDEC: MO-150; ComponentLink1Description: Manufacturer URL; ComponentLink1URL: http://www.microchip.com/; ComponentLink2Description: Datasheet; ComponentLink2URL: http://ww1.microchip.com/downloads/en/DeviceDoc/39598e.pdf; ComponentLink3Description: Package Specification; ComponentLink3URL: http://www.microchip.com/stellent/groups/techpub_sg/documents/packagingspec/en012702.pdf
footprint SSOP-SS20_N (SOP, 20-Leads, Body 7.2x5.2mm, Pitch 0.65mm, IPC Medium Density)
footprint SSOP-SS20_L (SOP, 20-Leads, Body 7.2x5.2mm, Pitch 0.65mm, IPC High Density)
footprint SSOP-SS20_M (SOP, 20-Leads, Body 7.2x5.2mm, Pitch 0.65mm, IPC Low Density)
pins: 1 RA2/AN2/VREF- (io), 2 RA3/AN3/VREF+ (io), 3 RA4/AN4/T0CKI (io), 4 RA5/~{MCLR}/VPP (io), 5 VSS (power), 6 VSS (power), 7 RB0/INT (io), 8 RB1/SDI/SDA (io), 9 RB2/SDO/CCP1 (io), 10 RB3/CCP1/PGM (io), 11 RB4/SCK/SCL (io), 12 RB5/~{SS} (io), 13 RB6/T1OSO/T1CKI/PGC (io), 14 RB7/T1OSI/PGD (io), 15 VDD (power), 16 VDD (power), 17 RA6/OSC2/CLKO (io), 18 RA7/OSC1/CLKI (io), 19 RA0/AN0 (io), 20 RA1/AN1 (io)

## PIC16LF819T-I/ML
designator U?
Enhanced Flash Microcontroller with nanoWatt Technology, 2K (x14-Bit words) Program Memory, 512 Bytes Data Memory, 16 I/O pins, 28-Pin QFN, Extended VDD Range, Industrial Temperature, Tape and Reel; Manufacturer: Microchip; PartNumber: PIC16LF819T-I/ML; DatasheetVersion: revE, Sep-2004; PackageVersion: revBB, Aug-2009; PackageReference: QFN-ML28; PackageDescription: 28-Lead Plastic Quad Flat, No Lead Package (ML) - 6x6 mm Body [QFN] with 0.55 mm Contact Length; Supplier 1: Digi-Key; Supplier Part Number 1: PIC16LF819T-I/ML-ND; Supplier 2: Mouser; Supplier Part Number 2: 579-PIC16LF819T-I/ML; Code_JEDEC: MO-220; ComponentLink1Description: Manufacturer URL; ComponentLink1URL: http://www.microchip.com/; ComponentLink2Description: Datasheet; ComponentLink2URL: http://ww1.microchip.com/downloads/en/DeviceDoc/39598e.pdf; ComponentLink3Description: Package Specification; ComponentLink3URL: http://www.microchip.com/stellent/groups/techpub_sg/documents/packagingspec/en012702.pdf
footprint QFN-ML28_N (QFN, 28-Leads, Body 6x6mm, Pitch 0.65mm, Thermal Pad 4.2x4.2mm, IPC Medium Density)
footprint QFN-ML28_L (QFN, 28-Leads, Body 6x6mm, Pitch 0.65mm, Thermal Pad 4.2x4.2mm, IPC High Density)
footprint QFN-ML28_M (QFN, 28-Leads, Body 6x6mm, Pitch 0.65mm, Thermal Pad 4.2x4.2mm, IPC Low Density)
pins: 1 RA5/~{MCLR}/VPP (io), 2 NC, 3 VSS (power), 4 NC, 5 VSS (power), 6 NC, 7 RB0/INT (io), 8 RB1/SDI/SDA (io), 9 RB2/SDO/CCP1 (io), 10 RB3/CCP1/PGM (io), 11 NC, 12 RB4/SCK/SCL (io), 13 RB5/~{SS} (io), 14 NC, 15 RB6/T1OSO/T1CKI/PGC (io), 16 RB7/T1OSI/PGD (io), 17 VDD (power), 18 NC, 19 VDD (power), 20 RA6/OSC2/CLKO (io), 21 RA7/OSC1/CLKI (io), 22 NC, 23 RA0/AN0 (io), 24 RA1/AN1 (io), 25 NC, 26 RA2/AN2/VREF- (io), 27 RA3/AN3/VREF+ (io), 28 RA4/AN4/T0CKI (io), 29 Thermal Pad

## PIC16LF819T-I/MLTSL
designator U?
Enhanced Flash Microcontroller with nanoWatt Technology, 2K (x14-Bit words) Program Memory, 512 Bytes Data Memory, 16 I/O pins, 28-Pin QFN, Extended VDD Range, Industrial Temperature, Tape and Reel; Manufacturer: Microchip; PartNumber: PIC16LF819T-I/MLTSL; DatasheetVersion: revE, Sep-2004; PackageVersion: revBB, Aug-2009; PackageReference: QFN-ML28; PackageDescription: 28-Lead Plastic Quad Flat, No Lead Package (ML) - 6x6 mm Body [QFN] with 0.55 mm Contact Length; Supplier 1: Digi-Key; Supplier Part Number 1: PIC16LF819TIMLTSL-ND; Supplier 2: Mouser; Supplier Part Number 2: 579-PIC16LF819TIMLTS; Code_JEDEC: MO-220; ComponentLink1Description: Manufacturer URL; ComponentLink1URL: http://www.microchip.com/; ComponentLink2Description: Datasheet; ComponentLink2URL: http://ww1.microchip.com/downloads/en/DeviceDoc/39598e.pdf; ComponentLink3Description: Package Specification; ComponentLink3URL: http://www.microchip.com/stellent/groups/techpub_sg/documents/packagingspec/en012702.pdf
footprint QFN-ML28_N (QFN, 28-Leads, Body 6x6mm, Pitch 0.65mm, Thermal Pad 4.2x4.2mm, IPC Medium Density)
footprint QFN-ML28_L (QFN, 28-Leads, Body 6x6mm, Pitch 0.65mm, Thermal Pad 4.2x4.2mm, IPC High Density)
footprint QFN-ML28_M (QFN, 28-Leads, Body 6x6mm, Pitch 0.65mm, Thermal Pad 4.2x4.2mm, IPC Low Density)
pins: 1 RA5/~{MCLR}/VPP (io), 2 NC, 3 VSS (power), 4 NC, 5 VSS (power), 6 NC, 7 RB0/INT (io), 8 RB1/SDI/SDA (io), 9 RB2/SDO/CCP1 (io), 10 RB3/CCP1/PGM (io), 11 NC, 12 RB4/SCK/SCL (io), 13 RB5/~{SS} (io), 14 NC, 15 RB6/T1OSO/T1CKI/PGC (io), 16 RB7/T1OSI/PGD (io), 17 VDD (power), 18 NC, 19 VDD (power), 20 RA6/OSC2/CLKO (io), 21 RA7/OSC1/CLKI (io), 22 NC, 23 RA0/AN0 (io), 24 RA1/AN1 (io), 25 NC, 26 RA2/AN2/VREF- (io), 27 RA3/AN3/VREF+ (io), 28 RA4/AN4/T0CKI (io), 29 Thermal Pad

## PIC16LF819T-I/SO
designator U?
Enhanced FLASH Microcontroller with nanoWatt Technology, 2K (x14-Bit words) FLASH, 256 Bytes RAM, 18-Pin SOIC, Extended VDD Range, Industrial Temperature, Tape and Reel; Manufacturer: Microchip; PartNumber: PIC16LF819T-I/SO; DatasheetVersion: revE, Sep-2004; PackageVersion: revBB, Aug-2009; PackageReference: SOIC-SO18; PackageDescription: 18-Lead Plastic Small Outline (SO) - Wide 7.50mm Body [SOIC]; Supplier 1: Digi-Key; Supplier Part Number 1: PIC16LF819T-I/SO-ND; Supplier 2: Mouser; Supplier Part Number 2: 579-PIC16LF819T-I/SO; Code_JEDEC: MS-013; ComponentLink1Description: Manufacturer URL; ComponentLink1URL: http://www.microchip.com/; ComponentLink2Description: Datasheet; ComponentLink2URL: http://ww1.microchip.com/downloads/en/DeviceDoc/39598e.pdf; ComponentLink3Description: Package Specification; ComponentLink3URL: http://www.microchip.com/stellent/groups/techpub_sg/documents/packagingspec/en012702.pdf
footprint SOIC-SO18_N (SOIC, 18-Leads, Body 11.5x7.5mm, Pitch 1.27mm, IPC Medium Density)
footprint SOIC-SO18_L (SOIC, 18-Leads, Body 11.5x7.5mm, Pitch 1.27mm, IPC High Density)
footprint SOIC-SO18_M (SOIC, 18-Leads, Body 11.5x7.5mm, Pitch 1.27mm, IPC Low Density)
pins: 1 RA2/AN2/VREF- (io), 2 RA3/AN3/VREF+ (io), 3 RA4/AN4/T0CKI (io), 4 RA5/~{MCLR}/VPP (io), 5 VSS (power), 6 RB0/INT (io), 7 RB1/SDI/SDA (io), 8 RB2/SDO/CCP1 (io), 9 RB3/CCP1/PGM (io), 10 RB4/SCK/SCL (io), 11 RB5/~{SS} (io), 12 RB6/T1OSO/T1CKI/PGC (io), 13 RB7/T1OSI/PGD (io), 14 VDD (power), 15 RA6/OSC2/CLKO (io), 16 RA7/OSC1/CLKI (io), 17 RA0/AN0 (io), 18 RA1/AN1 (io)

## PIC16LF819T-I/SOTSL
designator U?
Enhanced Flash Microcontroller with nanoWatt Technology, 2K (x14-Bit words) Program Memory, 512 Bytes Data Memory, 16 I/O pins, 18-Pin SOIC, Extended VDD Range, Industrial Temperature, Tape and Reel; Manufacturer: Microchip; PartNumber: PIC16LF819T-I/SOTSL; DatasheetVersion: revE, Sep-2004; PackageVersion: revBB, Aug-2009; PackageReference: SOIC-SO18; PackageDescription: 18-Lead Plastic Small Outline (SO) - Wide 7.50mm Body [SOIC]; Supplier 1: Digi-Key; Supplier Part Number 1: PIC16LF819TISOTSL-ND; Supplier 2: Mouser; Supplier Part Number 2: 579-PIC16LF819TISOTS; Code_JEDEC: MS-013; ComponentLink1Description: Manufacturer URL; ComponentLink1URL: http://www.microchip.com/; ComponentLink2Description: Datasheet; ComponentLink2URL: http://ww1.microchip.com/downloads/en/DeviceDoc/39598e.pdf; ComponentLink3Description: Package Specification; ComponentLink3URL: http://www.microchip.com/stellent/groups/techpub_sg/documents/packagingspec/en012702.pdf
footprint SOIC-SO18_N (SOIC, 18-Leads, Body 11.5x7.5mm, Pitch 1.27mm, IPC Medium Density)
footprint SOIC-SO18_L (SOIC, 18-Leads, Body 11.5x7.5mm, Pitch 1.27mm, IPC High Density)
footprint SOIC-SO18_M (SOIC, 18-Leads, Body 11.5x7.5mm, Pitch 1.27mm, IPC Low Density)
pins: 1 RA2/AN2/VREF- (io), 2 RA3/AN3/VREF+ (io), 3 RA4/AN4/T0CKI (io), 4 RA5/~{MCLR}/VPP (io), 5 VSS (power), 6 RB0/INT (io), 7 RB1/SDI/SDA (io), 8 RB2/SDO/CCP1 (io), 9 RB3/CCP1/PGM (io), 10 RB4/SCK/SCL (io), 11 RB5/~{SS} (io), 12 RB6/T1OSO/T1CKI/PGC (io), 13 RB7/T1OSI/PGD (io), 14 VDD (power), 15 RA6/OSC2/CLKO (io), 16 RA7/OSC1/CLKI (io), 17 RA0/AN0 (io), 18 RA1/AN1 (io)

## PIC16LF819T-I/SS
designator U?
Enhanced FLASH Microcontroller with nanoWatt Technology, 2K (x14-Bit words) FLASH, 256 Bytes RAM, 20-Pin SSOP, Extended VDD Range, Industrial Temperature, Tape and Reel; Manufacturer: Microchip; PartNumber: PIC16LF819T-I/SS; DatasheetVersion: revE, Sep-2004; PackageVersion: revBB, Aug-2009; PackageReference: SSOP-SS20; PackageDescription: 20-Lead Plastic Shrink Small Outline (SS) - 5.3mm Body [SSOP]; Supplier 1: Digi-Key; Supplier Part Number 1: PIC16LF819T-I/SS-ND; Supplier 2: Mouser; Supplier Part Number 2: 579-PIC16LF819T-I/SS; Code_JEDEC: MO-150; ComponentLink1Description: Manufacturer URL; ComponentLink1URL: http://www.microchip.com/; ComponentLink2Description: Datasheet; ComponentLink2URL: http://ww1.microchip.com/downloads/en/DeviceDoc/39598e.pdf; ComponentLink3Description: Package Specification; ComponentLink3URL: http://www.microchip.com/stellent/groups/techpub_sg/documents/packagingspec/en012702.pdf
footprint SSOP-SS20_N (SOP, 20-Leads, Body 7.2x5.2mm, Pitch 0.65mm, IPC Medium Density)
footprint SSOP-SS20_L (SOP, 20-Leads, Body 7.2x5.2mm, Pitch 0.65mm, IPC High Density)
footprint SSOP-SS20_M (SOP, 20-Leads, Body 7.2x5.2mm, Pitch 0.65mm, IPC Low Density)
pins: 1 RA2/AN2/VREF- (io), 2 RA3/AN3/VREF+ (io), 3 RA4/AN4/T0CKI (io), 4 RA5/~{MCLR}/VPP (io), 5 VSS (power), 6 VSS (power), 7 RB0/INT (io), 8 RB1/SDI/SDA (io), 9 RB2/SDO/CCP1 (io), 10 RB3/CCP1/PGM (io), 11 RB4/SCK/SCL (io), 12 RB5/~{SS} (io), 13 RB6/T1OSO/T1CKI/PGC (io), 14 RB7/T1OSI/PGD (io), 15 VDD (power), 16 VDD (power), 17 RA6/OSC2/CLKO (io), 18 RA7/OSC1/CLKI (io), 19 RA0/AN0 (io), 20 RA1/AN1 (io)

## PIC16LF819T-I/SSTSL
designator U?
Enhanced Flash Microcontroller with nanoWatt Technology, 2K (x14-Bit words) Program Memory, 512 Bytes Data Memory, 16 I/O pins, 20-Pin SSOP, Extended VDD Range, Industrial Temperature, Tape and Reel; Manufacturer: Microchip; PartNumber: PIC16LF819T-I/SSTSL; DatasheetVersion: revE, Sep-2004; PackageVersion: revBB, Aug-2009; PackageReference: SSOP-SS20; PackageDescription: 20-Lead Plastic Shrink Small Outline (SS) - 5.3mm Body [SSOP]; Supplier 1: Digi-Key; Supplier Part Number 1: PIC16LF819TISSTSL-ND; Supplier 2: Mouser; Supplier Part Number 2: 579-PIC16LF819TISSTS; Code_JEDEC: MO-150; ComponentLink1Description: Manufacturer URL; ComponentLink1URL: http://www.microchip.com/; ComponentLink2Description: Datasheet; ComponentLink2URL: http://ww1.microchip.com/downloads/en/DeviceDoc/39598e.pdf; ComponentLink3Description: Package Specification; ComponentLink3URL: http://www.microchip.com/stellent/groups/techpub_sg/documents/packagingspec/en012702.pdf
footprint SSOP-SS20_N (SOP, 20-Leads, Body 7.2x5.2mm, Pitch 0.65mm, IPC Medium Density)
footprint SSOP-SS20_L (SOP, 20-Leads, Body 7.2x5.2mm, Pitch 0.65mm, IPC High Density)
footprint SSOP-SS20_M (SOP, 20-Leads, Body 7.2x5.2mm, Pitch 0.65mm, IPC Low Density)
pins: 1 RA2/AN2/VREF- (io), 2 RA3/AN3/VREF+ (io), 3 RA4/AN4/T0CKI (io), 4 RA5/~{MCLR}/VPP (io), 5 VSS (power), 6 VSS (power), 7 RB0/INT (io), 8 RB1/SDI/SDA (io), 9 RB2/SDO/CCP1 (io), 10 RB3/CCP1/PGM (io), 11 RB4/SCK/SCL (io), 12 RB5/~{SS} (io), 13 RB6/T1OSO/T1CKI/PGC (io), 14 RB7/T1OSI/PGD (io), 15 VDD (power), 16 VDD (power), 17 RA6/OSC2/CLKO (io), 18 RA7/OSC1/CLKI (io), 19 RA0/AN0 (io), 20 RA1/AN1 (io)

## PIC16LF870-I/SO
designator U?
8-Bit CMOS FLASH Microcontroller, 2K (x14-Bit words) FLASH, 128 Bytes RAM, 28-Pin SOIC, Extended VDD Range, Industrial Temperature; Manufacturer: Microchip; PartNumber: PIC16LF870-I/SO; DatasheetVersion: revB, Apr-2003; PackageVersion: revBB, Aug-2009; PackageReference: SOIC-SO28; PackageDescription: 28-Lead Plastic Small Outline (SO) - Wide 7.50mm Body [SOIC]; Supplier 1: Digi-Key; Supplier Part Number 1: PIC16LF870-I/SO-ND; Supplier 2: Newark; Supplier Part Number 2: 23C5702; Supplier 3: Mouser; Supplier Part Number 3: 579-PIC16LF870-I/SO; Code_JEDEC: MS-013; ComponentLink1Description: Manufacturer URL; ComponentLink1URL: http://www.microchip.com/; ComponentLink2Description: Datasheet; ComponentLink2URL: http://ww1.microchip.com/downloads/en/DeviceDoc/30569b.pdf; ComponentLink3Description: Package Specification; ComponentLink3URL: http://www.microchip.com/stellent/groups/techpub_sg/documents/packagingspec/en012702.pdf
footprint SOIC-SO28_N (SOIC, 28-Leads, Body 17.9x7.5mm, Pitch 1.27mm, IPC Medium Density)
footprint SOIC-SO28_L (SOIC, 28-Leads, Body 17.9x7.5mm, Pitch 1.27mm, IPC High Density)
footprint SOIC-SO28_M (SOIC, 28-Leads, Body 17.9x7.5mm, Pitch 1.27mm, IPC Low Density)
pins: 1 ~{MCLR}/VPP/THV (in), 2 RA0/AN0 (io), 3 RA1/AN1 (io), 4 RA2/AN2/VREF- (io), 5 RA3/AN3/VREF+ (io), 6 RA4/T0CKI (io), 7 RA5/AN4 (io), 8 VSS (power), 9 OSC1/CLKI (in), 10 OSC2/CLKO (out), 11 RC0/T1OSO/T1CKI (io), 12 RC1/T1OSI (io), 13 RC2/CCP1 (io), 14 RC3 (io), 15 RC4 (io), 16 RC5 (io), 17 RC6/TX/CK (io), 18 RC7/RX/DT (io), 19 VSS (power), 20 VDD (power), 21 RB0/INT (io), 22 RB1 (io), 23 RB2 (io), 24 RB3/PGM (io), 25 RB4 (io), 26 RB5 (io), 27 RB6/PGC (io), 28 RB7/PGD (io)

## PIC16LF870-I/SP
designator U?
8-Bit CMOS FLASH Microcontroller, 2K (x14-Bit words) FLASH, 128 Bytes RAM, 28-Pin PDIP 300mil, Extended VDD Range, Industrial Temperature; Manufacturer: Microchip; PartNumber: PIC16LF870-I/SP; DatasheetVersion: revB, Apr-2003; PackageVersion: revBB, Aug-2009; PackageReference: SPDIP300-SP28; PackageDescription: 28-Lead Skinny Plastic Dual In-Line (SP) - 300 mil Body [SPDIP]; Supplier 1: Digi-Key; Supplier Part Number 1: PIC16LF870-I/SP-ND; Supplier 2: Newark; Supplier Part Number 2: 69K7641; Supplier 3: Mouser; Supplier Part Number 3: 579-PIC16LF870-I/SP; ComponentLink1Description: Manufacturer URL; ComponentLink1URL: http://www.microchip.com/; ComponentLink2Description: Datasheet; ComponentLink2URL: http://ww1.microchip.com/downloads/en/DeviceDoc/30569b.pdf; ComponentLink3Description: Package Specification; ComponentLink3URL: http://www.microchip.com/stellent/groups/techpub_sg/documents/packagingspec/en012702.pdf
footprint SPDIP300-SP28 (DIP, 28-Leads, Row Spacing 7.62mm, Pitch 2.54mm, Body 34.9x6.8mm)
pins: 1 ~{MCLR}/VPP/THV (in), 2 RA0/AN0 (io), 3 RA1/AN1 (io), 4 RA2/AN2/VREF- (io), 5 RA3/AN3/VREF+ (io), 6 RA4/T0CKI (io), 7 RA5/AN4 (io), 8 VSS (power), 9 OSC1/CLKI (in), 10 OSC2/CLKO (out), 11 RC0/T1OSO/T1CKI (io), 12 RC1/T1OSI (io), 13 RC2/CCP1 (io), 14 RC3 (io), 15 RC4 (io), 16 RC5 (io), 17 RC6/TX/CK (io), 18 RC7/RX/DT (io), 19 VSS (power), 20 VDD (power), 21 RB0/INT (io), 22 RB1 (io), 23 RB2 (io), 24 RB3/PGM (io), 25 RB4 (io), 26 RB5 (io), 27 RB6/PGC (io), 28 RB7/PGD (io)

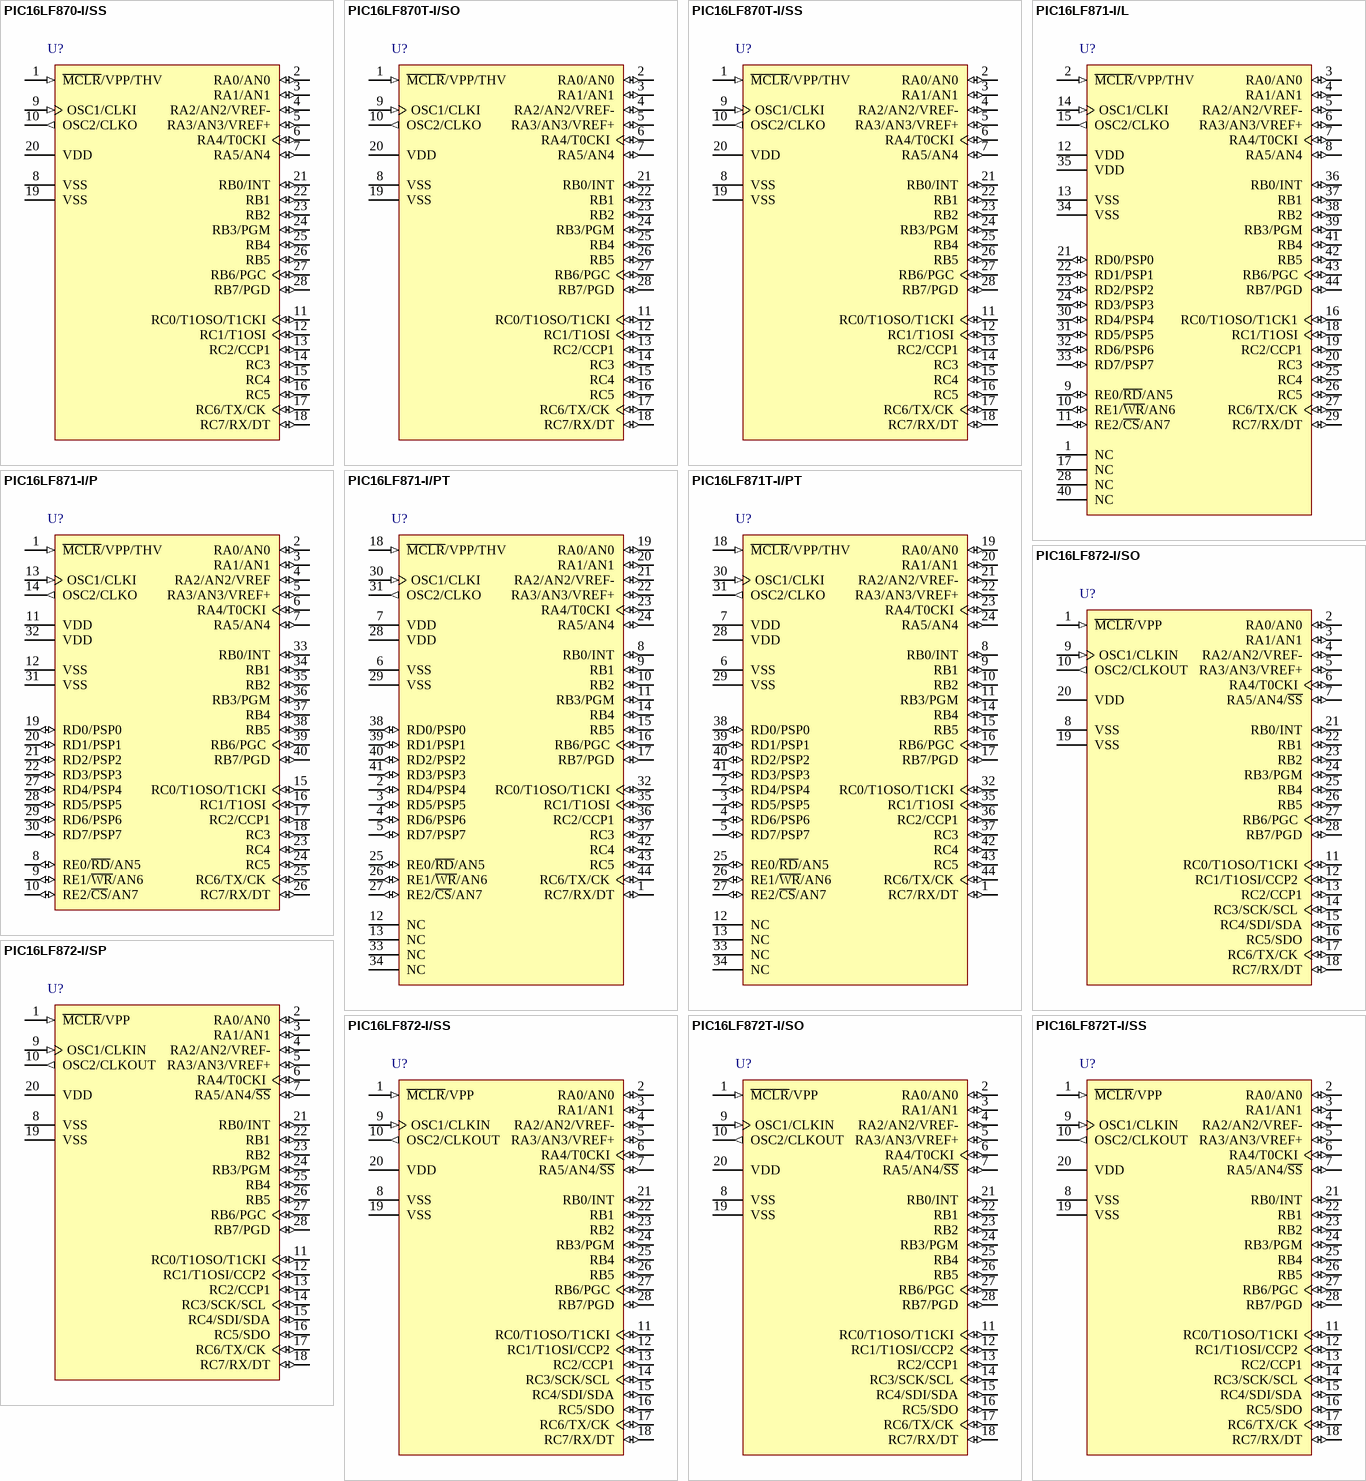
[diagram p113: symbols PIC16LF870-I/SS to PIC16LF872T-I/SS]

## PIC16LF870-I/SS
designator U?
8-Bit CMOS FLASH Microcontroller, 2K (x14-Bit words) FLASH, 128 Bytes RAM, 28-Pin SSOP, Extended VDD Range, Industrial Temperature; Manufacturer: Microchip; PartNumber: PIC16LF870-I/SS; DatasheetVersion: revB, Apr-2003; PackageVersion: revBB, Aug-2009; PackageReference: SSOP-SS28; PackageDescription: 28-Lead Plastic Shrink Small Outline (SS) - 5.3mm Body [SSOP]; Supplier 1: Digi-Key; Supplier Part Number 1: PIC16LF870-I/SS-ND; Supplier 2: Newark; Supplier Part Number 2: 23C5704; Supplier 3: Mouser; Supplier Part Number 3: 579-PIC16LF870-I/SS; Code_JEDEC: MS-150; ComponentLink1Description: Manufacturer URL; ComponentLink1URL: http://www.microchip.com/; ComponentLink2Description: Datasheet; ComponentLink2URL: http://ww1.microchip.com/downloads/en/DeviceDoc/30569b.pdf; ComponentLink3Description: Package Specification; ComponentLink3URL: http://www.microchip.com/stellent/groups/techpub_sg/documents/packagingspec/en012702.pdf
footprint SSOP-SS28_N (SOP, 28-Leads, Body 10.2x5.2mm, Pitch 0.65mm, IPC Medium Density)
footprint SSOP-SS28_L (SOP, 28-Leads, Body 10.2x5.2mm, Pitch 0.65mm, IPC High Density)
footprint SSOP-SS28_M (SOP, 28-Leads, Body 10.2x5.2mm, Pitch 0.65mm, IPC Low Density)
pins: 1 ~{MCLR}/VPP/THV (in), 2 RA0/AN0 (io), 3 RA1/AN1 (io), 4 RA2/AN2/VREF- (io), 5 RA3/AN3/VREF+ (io), 6 RA4/T0CKI (io), 7 RA5/AN4 (io), 8 VSS (power), 9 OSC1/CLKI (in), 10 OSC2/CLKO (out), 11 RC0/T1OSO/T1CKI (io), 12 RC1/T1OSI (io), 13 RC2/CCP1 (io), 14 RC3 (io), 15 RC4 (io), 16 RC5 (io), 17 RC6/TX/CK (io), 18 RC7/RX/DT (io), 19 VSS (power), 20 VDD (power), 21 RB0/INT (io), 22 RB1 (io), 23 RB2 (io), 24 RB3/PGM (io), 25 RB4 (io), 26 RB5 (io), 27 RB6/PGC (io), 28 RB7/PGD (io)

## PIC16LF870T-I/SO
designator U?
8-Bit CMOS FLASH Microcontroller, 2K (x14-Bit words) FLASH, 128 Bytes RAM, 28-Pin SOIC, Extended VDD Range, Industrial Temperature, Tape and Reel; Manufacturer: Microchip; PartNumber: PIC16LF870T-I/SO; DatasheetVersion: revB, Apr-2003; PackageVersion: revBB, Aug-2009; PackageReference: SOIC-SO28; PackageDescription: 28-Lead Plastic Small Outline (SO) - Wide 7.50mm Body [SOIC]; Supplier 1: Digi-Key; Supplier Part Number 1: PIC16LF870T-I/SO-ND; Supplier 2: Mouser; Supplier Part Number 2: 579-PIC16LF870T-I/SO; Code_JEDEC: MS-013; ComponentLink1Description: Manufacturer URL; ComponentLink1URL: http://www.microchip.com/; ComponentLink2Description: Datasheet; ComponentLink2URL: http://ww1.microchip.com/downloads/en/DeviceDoc/30569b.pdf; ComponentLink3Description: Package Specification; ComponentLink3URL: http://www.microchip.com/stellent/groups/techpub_sg/documents/packagingspec/en012702.pdf
footprint SOIC-SO28_N (SOIC, 28-Leads, Body 17.9x7.5mm, Pitch 1.27mm, IPC Medium Density)
footprint SOIC-SO28_L (SOIC, 28-Leads, Body 17.9x7.5mm, Pitch 1.27mm, IPC High Density)
footprint SOIC-SO28_M (SOIC, 28-Leads, Body 17.9x7.5mm, Pitch 1.27mm, IPC Low Density)
pins: 1 ~{MCLR}/VPP/THV (in), 2 RA0/AN0 (io), 3 RA1/AN1 (io), 4 RA2/AN2/VREF- (io), 5 RA3/AN3/VREF+ (io), 6 RA4/T0CKI (io), 7 RA5/AN4 (io), 8 VSS (power), 9 OSC1/CLKI (in), 10 OSC2/CLKO (out), 11 RC0/T1OSO/T1CKI (io), 12 RC1/T1OSI (io), 13 RC2/CCP1 (io), 14 RC3 (io), 15 RC4 (io), 16 RC5 (io), 17 RC6/TX/CK (io), 18 RC7/RX/DT (io), 19 VSS (power), 20 VDD (power), 21 RB0/INT (io), 22 RB1 (io), 23 RB2 (io), 24 RB3/PGM (io), 25 RB4 (io), 26 RB5 (io), 27 RB6/PGC (io), 28 RB7/PGD (io)

## PIC16LF870T-I/SS
designator U?
8-Bit CMOS FLASH Microcontroller, 2K (x14-Bit words) FLASH, 128 Bytes RAM, 28-Pin SSOP, Extended VDD Range, Industrial Temperature, Tape and Reel; Manufacturer: Microchip; PartNumber: PIC16LF870T-I/SS; DatasheetVersion: revB, Apr-2003; PackageVersion: revBB, Aug-2009; PackageReference: SSOP-SS28; PackageDescription: 28-Lead Plastic Shrink Small Outline (SS) - 5.3mm Body [SSOP]; Supplier 1: Digi-Key; Supplier Part Number 1: PIC16LF870T-I/SS-ND; Supplier 2: Mouser; Supplier Part Number 2: 579-PIC16LF870T-I/SS; Code_JEDEC: MS-150; ComponentLink1Description: Manufacturer URL; ComponentLink1URL: http://www.microchip.com/; ComponentLink2Description: Datasheet; ComponentLink2URL: http://ww1.microchip.com/downloads/en/DeviceDoc/30569b.pdf; ComponentLink3Description: Package Specification; ComponentLink3URL: http://www.microchip.com/stellent/groups/techpub_sg/documents/packagingspec/en012702.pdf
footprint SSOP-SS28_N (SOP, 28-Leads, Body 10.2x5.2mm, Pitch 0.65mm, IPC Medium Density)
footprint SSOP-SS28_L (SOP, 28-Leads, Body 10.2x5.2mm, Pitch 0.65mm, IPC High Density)
footprint SSOP-SS28_M (SOP, 28-Leads, Body 10.2x5.2mm, Pitch 0.65mm, IPC Low Density)
pins: 1 ~{MCLR}/VPP/THV (in), 2 RA0/AN0 (io), 3 RA1/AN1 (io), 4 RA2/AN2/VREF- (io), 5 RA3/AN3/VREF+ (io), 6 RA4/T0CKI (io), 7 RA5/AN4 (io), 8 VSS (power), 9 OSC1/CLKI (in), 10 OSC2/CLKO (out), 11 RC0/T1OSO/T1CKI (io), 12 RC1/T1OSI (io), 13 RC2/CCP1 (io), 14 RC3 (io), 15 RC4 (io), 16 RC5 (io), 17 RC6/TX/CK (io), 18 RC7/RX/DT (io), 19 VSS (power), 20 VDD (power), 21 RB0/INT (io), 22 RB1 (io), 23 RB2 (io), 24 RB3/PGM (io), 25 RB4 (io), 26 RB5 (io), 27 RB6/PGC (io), 28 RB7/PGD (io)